# Altium footprint library uMAX10.PcbLib: 1 footprints
Each footprint in its own frame and in the unit in brackets; x right, y up, seen from the top. Pads: shape width x height; smd on the part's side, far side on the other; paste and mask are expansions set on the pad; w line width, h text height; cw(c..) or ccw(c..) is an arc to the next point about the centre after c.
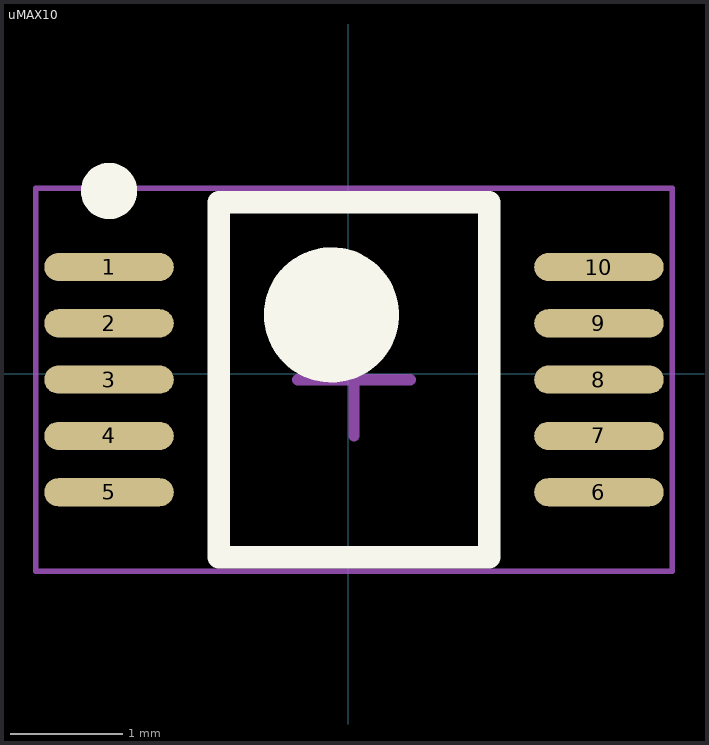
[diagram p0: the footprint, top view; thin cyan lines are the x and y axes]

## uMAX10 [mm]
height 1.1
pads (10):
  oval 1.15x0.25 smd: 1(-2.124,0.949) 2(-2.124,0.449) 3(-2.124,-0.051) 4(-2.124,-0.551) 5(-2.124,-1.051) 6(2.226,-1.051) 7(2.226,-0.551) 8(2.226,-0.051) 9(2.226,0.449) 10(2.226,0.949)
Top Overlay:
  circle w0.25: c-2.124,1.624 r0.125
  circle w0.6: c-0.149,0.524 r0.3
  lines w0.2: -1.149,-1.626 -1.149,1.524 1.251,1.524 1.251,-1.626 -1.149,-1.626
Mechanical 15:
  lines w0.05: -2.774,-1.751 -2.774,1.649 2.876,1.649 2.876,-1.751 -2.774,-1.751
  lines w0.1: -0.449,-0.051 0.551,-0.051 ; 0.051,-0.551 0.051,0.449
3D body "uMAX10.STEP": height 0.95, standoff 0, extent -2.451,-1.575 2.55,1.425